# Altium footprint library QFN_Sq_65P_Side_M.PcbLib: 53 footprints (part 2 of 4)
Each footprint in its own frame and in the unit in brackets; x right, y up, seen from the top. Pads: shape width x height; smd on the part's side, far side on the other; paste and mask are expansions set on the pad; w line width, h text height; cw(c..) or ccw(c..) is an arc to the next point about the centre after c.
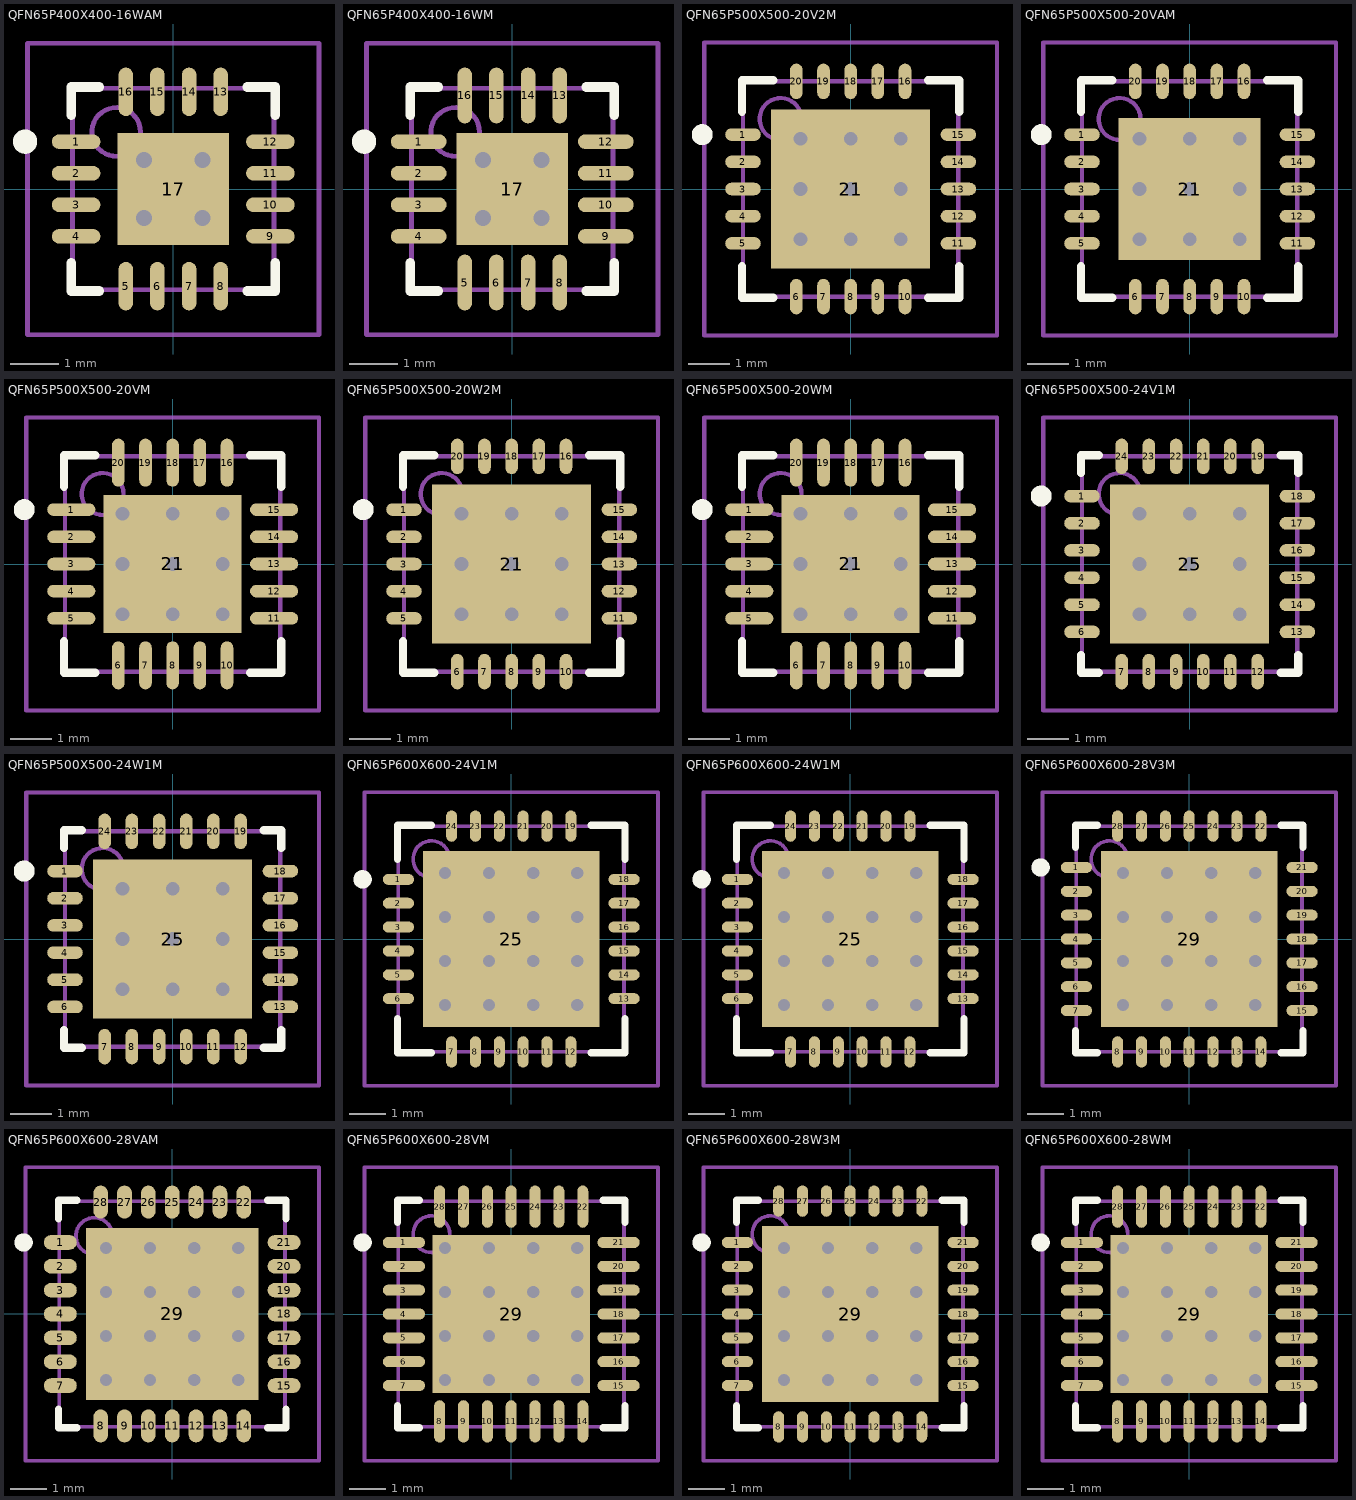
[diagram p1: the footprints below, top view; thin cyan lines are the x and y axes]

## QFN65P400X400-16WAM [mm] "16-Pin Plastic Quad Flat No-Lead 0.65 mm Pitch"
height 0.8
pads (17):
  oval 1x0.3 smd: 1(-2,0.975) 2(-2,0.325) 3(-2,-0.325) 4(-2,-0.975) 9(2,-0.975) 10(2,-0.325) 11(2,0.325) 12(2,0.975)
  oval 0.3x1 smd: 5(-0.975,-2) 6(-0.325,-2) 7(0.325,-2) 8(0.975,-2) 13(0.975,2) 14(0.325,2) 15(-0.325,2) 16(-0.975,2)
  rect 2.3x2.3 smd: 17(0,0)
via -0.6,0.6 diameter 0.66 hole 0.33
via 0.6,0.6 diameter 0.66 hole 0.33
via -0.6,-0.6 diameter 0.66 hole 0.33
via 0.6,-0.6 diameter 0.66 hole 0.33
Top Overlay:
  circle w0.25: c-3.05,0.975 r0.125
  lines w0.2: -2.1,-1.525 -2.1,-2.1 -1.525,-2.1 ; -2.1,1.525 -2.1,2.1 -1.525,2.1 ; 1.525,-2.1 2.1,-2.1 2.1,-1.525 ; 1.525,2.1 2.1,2.1 2.1,1.525
Mechanical 13:
  circle w0.1: c-1.175,1.175 r0.5
  lines w0.1: -2.075,-2.075 -2.075,2.075 2.075,2.075 2.075,-2.075 -2.075,-2.075
Mechanical 15:
  lines w0.1: -0.5,0 0.5,0 ; 0,-0.5 0,0.5 ; -3,-3 -3,3 3,3 3,-3 -3,-3
3D body: height 1, standoff 0, extent -2.075,-2.075 2.075,2.075

## QFN65P400X400-16WM [mm] "QFN, 16-Leads, Body 4x4 mm, Pitch 0.65mm, IPC Low Density"
height 0.8
pads (17):
  oval 1.15x0.3 smd: 1(-1.925,0.975) 2(-1.925,0.325) 3(-1.925,-0.325) 4(-1.925,-0.975) 9(1.925,-0.975) 10(1.925,-0.325) 11(1.925,0.325) 12(1.925,0.975)
  oval 0.3x1.15 smd: 5(-0.975,-1.925) 6(-0.325,-1.925) 7(0.325,-1.925) 8(0.975,-1.925) 13(0.975,1.925) 14(0.325,1.925) 15(-0.325,1.925) 16(-0.975,1.925)
  rect 2.3x2.3 smd: 17(0,0)
via 0.6,-0.6 diameter 0.66 hole 0.33
via -0.6,-0.6 diameter 0.66 hole 0.33
via 0.6,0.6 diameter 0.66 hole 0.33
via -0.6,0.6 diameter 0.66 hole 0.33
Top Overlay:
  circle w0.25: c-3.05,0.975 r0.125
  lines w0.2: -2.1,-1.525 -2.1,-2.1 -1.525,-2.1 ; -2.1,1.525 -2.1,2.1 -1.525,2.1 ; 1.525,-2.1 2.1,-2.1 2.1,-1.525 ; 1.525,2.1 2.1,2.1 2.1,1.525
Mechanical 13:
  circle w0.1: c-1.175,1.175 r0.5
  lines w0.1: -2.075,-2.075 2.075,-2.075 2.075,2.075 -2.075,2.075 -2.075,-2.075
Mechanical 15:
  lines w0.1: -0.5,0 0.5,0 ; 0,-0.5 0,0.5 ; -3,-3 3,-3 3,3 -3,3 -3,-3
3D body: height 0.8, standoff 0, extent -2.075,-2.075 2.075,2.075

## QFN65P500X500-20V2M [mm] "QFN, 20-Leads, Body 5x5 mm, Pitch 0.65mm, IPC Low Density"
height 1
pads (21):
  oval 0.85x0.3 smd: 1(-2.575,1.3) 2(-2.575,0.65) 3(-2.575,0) 4(-2.575,-0.65) 5(-2.575,-1.3) 11(2.575,-1.3) 12(2.575,-0.65) 13(2.575,0) 14(2.575,0.65) 15(2.575,1.3)
  oval 0.3x0.85 smd: 6(-1.3,-2.575) 7(-0.65,-2.575) 8(0,-2.575) 9(0.65,-2.575) 10(1.3,-2.575) 16(1.3,2.575) 17(0.65,2.575) 18(0,2.575) 19(-0.65,2.575) 20(-1.3,2.575)
  rect 3.8x3.8 smd: 21(0,0)
via 1.2,-1.2 diameter 0.66 hole 0.33
via 0,-1.2 diameter 0.66 hole 0.33
via -1.2,-1.2 diameter 0.66 hole 0.33
via 1.2,0 diameter 0.66 hole 0.33
via 0,0 diameter 0.66 hole 0.33
via -1.2,0 diameter 0.66 hole 0.33
via 1.2,1.2 diameter 0.66 hole 0.33
via 0,1.2 diameter 0.66 hole 0.33
via -1.2,1.2 diameter 0.66 hole 0.33
Top Overlay:
  circle w0.25: c-3.55,1.3 r0.125
  lines w0.2: -2.6,-1.85 -2.6,-2.6 -1.85,-2.6 ; -2.6,1.85 -2.6,2.6 -1.85,2.6 ; 1.85,-2.6 2.6,-2.6 2.6,-1.85 ; 1.85,2.6 2.6,2.6 2.6,1.85
Mechanical 13:
  circle w0.1: c-1.675,1.675 r0.5
  lines w0.1: -2.575,-2.575 2.575,-2.575 2.575,2.575 -2.575,2.575 -2.575,-2.575
Mechanical 15:
  lines w0.1: -0.5,0 0.5,0 ; 0,-0.5 0,0.5 ; -3.5,-3.5 3.5,-3.5 3.5,3.5 -3.5,3.5 -3.5,-3.5
3D body: height 1, standoff 0, extent -2.575,-2.575 2.575,2.575

## QFN65P500X500-20VAM [mm] "QFN, 20-Leads, Body 5x5 mm, Pitch 0.65mm, IPC Low Density"
height 1
pads (21):
  oval 0.85x0.3 smd: 1(-2.575,1.3) 2(-2.575,0.65) 3(-2.575,0) 4(-2.575,-0.65) 5(-2.575,-1.3) 11(2.575,-1.3) 12(2.575,-0.65) 13(2.575,0) 14(2.575,0.65) 15(2.575,1.3)
  oval 0.3x0.85 smd: 6(-1.3,-2.575) 7(-0.65,-2.575) 8(0,-2.575) 9(0.65,-2.575) 10(1.3,-2.575) 16(1.3,2.575) 17(0.65,2.575) 18(0,2.575) 19(-0.65,2.575) 20(-1.3,2.575)
  rect 3.4x3.4 smd: 21(0,0)
via -1.2,1.2 diameter 0.66 hole 0.33
via 0,1.2 diameter 0.66 hole 0.33
via 1.2,1.2 diameter 0.66 hole 0.33
via -1.2,0 diameter 0.66 hole 0.33
via 0,0 diameter 0.66 hole 0.33
via 1.2,0 diameter 0.66 hole 0.33
via -1.2,-1.2 diameter 0.66 hole 0.33
via 0,-1.2 diameter 0.66 hole 0.33
via 1.2,-1.2 diameter 0.66 hole 0.33
Top Overlay:
  circle w0.25: c-3.55,1.3 r0.125
  lines w0.2: -2.6,-1.85 -2.6,-2.6 -1.85,-2.6 ; -2.6,1.85 -2.6,2.6 -1.85,2.6 ; 1.85,-2.6 2.6,-2.6 2.6,-1.85 ; 1.85,2.6 2.6,2.6 2.6,1.85
Mechanical 13:
  circle w0.1: c-1.675,1.675 r0.5
  lines w0.1: -2.575,-2.575 -2.575,2.575 2.575,2.575 2.575,-2.575 -2.575,-2.575
Mechanical 15:
  lines w0.1: -0.5,0 0.5,0 ; 0,-0.5 0,0.5 ; -3.5,-3.5 -3.5,3.5 3.5,3.5 3.5,-3.5 -3.5,-3.5
3D body: height 1, standoff 0, extent -2.575,-2.575 2.575,2.575

## QFN65P500X500-20VM [mm] "QFN, 20-Leads, Body 5x5 mm, Pitch 0.65mm, IPC Low Density"
height 1
pads (21):
  oval 1.15x0.3 smd: 1(-2.425,1.3) 2(-2.425,0.65) 3(-2.425,0) 4(-2.425,-0.65) 5(-2.425,-1.3) 11(2.425,-1.3) 12(2.425,-0.65) 13(2.425,0) 14(2.425,0.65) 15(2.425,1.3)
  oval 0.3x1.15 smd: 6(-1.3,-2.425) 7(-0.65,-2.425) 8(0,-2.425) 9(0.65,-2.425) 10(1.3,-2.425) 16(1.3,2.425) 17(0.65,2.425) 18(0,2.425) 19(-0.65,2.425) 20(-1.3,2.425)
  rect 3.3x3.3 smd: 21(0,0)
via -1.2,1.2 diameter 0.66 hole 0.33
via 0,1.2 diameter 0.66 hole 0.33
via 1.2,1.2 diameter 0.66 hole 0.33
via -1.2,0 diameter 0.66 hole 0.33
via 0,0 diameter 0.66 hole 0.33
via 1.2,0 diameter 0.66 hole 0.33
via -1.2,-1.2 diameter 0.66 hole 0.33
via 0,-1.2 diameter 0.66 hole 0.33
via 1.2,-1.2 diameter 0.66 hole 0.33
Top Overlay:
  circle w0.25: c-3.55,1.3 r0.125
  lines w0.2: -2.6,-1.85 -2.6,-2.6 -1.85,-2.6 ; -2.6,1.85 -2.6,2.6 -1.85,2.6 ; 1.85,-2.6 2.6,-2.6 2.6,-1.85 ; 1.85,2.6 2.6,2.6 2.6,1.85
Mechanical 13:
  circle w0.1: c-1.675,1.675 r0.5
  lines w0.1: -2.575,-2.575 -2.575,2.575 2.575,2.575 2.575,-2.575 -2.575,-2.575
Mechanical 15:
  lines w0.1: -0.5,0 0.5,0 ; 0,-0.5 0,0.5 ; -3.5,-3.5 -3.5,3.5 3.5,3.5 3.5,-3.5 -3.5,-3.5
3D body: height 1, standoff 0, extent -2.575,-2.575 2.575,2.575

## QFN65P500X500-20W2M [mm] "QFN, 20-Leads, Body 5x5 mm, Pitch 0.65mm, IPC Low Density"
height 0.8
pads (21):
  oval 0.85x0.3 smd: 1(-2.575,1.3) 2(-2.575,0.65) 3(-2.575,0) 4(-2.575,-0.65) 5(-2.575,-1.3) 11(2.575,-1.3) 12(2.575,-0.65) 13(2.575,0) 14(2.575,0.65) 15(2.575,1.3)
  oval 0.3x0.85 smd: 6(-1.3,-2.575) 7(-0.65,-2.575) 8(0,-2.575) 9(0.65,-2.575) 10(1.3,-2.575) 16(1.3,2.575) 17(0.65,2.575) 18(0,2.575) 19(-0.65,2.575) 20(-1.3,2.575)
  rect 3.8x3.8 smd: 21(0,0)
via 1.2,-1.2 diameter 0.66 hole 0.33
via 0,-1.2 diameter 0.66 hole 0.33
via -1.2,-1.2 diameter 0.66 hole 0.33
via 1.2,0 diameter 0.66 hole 0.33
via 0,0 diameter 0.66 hole 0.33
via -1.2,0 diameter 0.66 hole 0.33
via 1.2,1.2 diameter 0.66 hole 0.33
via 0,1.2 diameter 0.66 hole 0.33
via -1.2,1.2 diameter 0.66 hole 0.33
Top Overlay:
  circle w0.25: c-3.55,1.3 r0.125
  lines w0.2: -2.6,-1.85 -2.6,-2.6 -1.85,-2.6 ; -2.6,1.85 -2.6,2.6 -1.85,2.6 ; 1.85,-2.6 2.6,-2.6 2.6,-1.85 ; 1.85,2.6 2.6,2.6 2.6,1.85
Mechanical 13:
  circle w0.1: c-1.675,1.675 r0.5
  lines w0.1: -2.575,-2.575 2.575,-2.575 2.575,2.575 -2.575,2.575 -2.575,-2.575
Mechanical 15:
  lines w0.1: -0.5,0 0.5,0 ; 0,-0.5 0,0.5 ; -3.5,-3.5 3.5,-3.5 3.5,3.5 -3.5,3.5 -3.5,-3.5
3D body: height 0.8, standoff 0, extent -2.575,-2.575 2.575,2.575

## QFN65P500X500-20WM [mm] "QFN, 20-Leads, Body 5x5 mm, Pitch 0.65mm, IPC Low Density"
height 0.8
pads (21):
  oval 1.15x0.3 smd: 1(-2.425,1.3) 2(-2.425,0.65) 3(-2.425,0) 4(-2.425,-0.65) 5(-2.425,-1.3) 11(2.425,-1.3) 12(2.425,-0.65) 13(2.425,0) 14(2.425,0.65) 15(2.425,1.3)
  oval 0.3x1.15 smd: 6(-1.3,-2.425) 7(-0.65,-2.425) 8(0,-2.425) 9(0.65,-2.425) 10(1.3,-2.425) 16(1.3,2.425) 17(0.65,2.425) 18(0,2.425) 19(-0.65,2.425) 20(-1.3,2.425)
  rect 3.3x3.3 smd: 21(0,0)
via 1.2,-1.2 diameter 0.66 hole 0.33
via 0,-1.2 diameter 0.66 hole 0.33
via -1.2,-1.2 diameter 0.66 hole 0.33
via 1.2,0 diameter 0.66 hole 0.33
via 0,0 diameter 0.66 hole 0.33
via -1.2,0 diameter 0.66 hole 0.33
via 1.2,1.2 diameter 0.66 hole 0.33
via 0,1.2 diameter 0.66 hole 0.33
via -1.2,1.2 diameter 0.66 hole 0.33
Top Overlay:
  circle w0.25: c-3.55,1.3 r0.125
  lines w0.2: -2.6,-1.85 -2.6,-2.6 -1.85,-2.6 ; -2.6,1.85 -2.6,2.6 -1.85,2.6 ; 1.85,-2.6 2.6,-2.6 2.6,-1.85 ; 1.85,2.6 2.6,2.6 2.6,1.85
Mechanical 13:
  circle w0.1: c-1.675,1.675 r0.5
  lines w0.1: -2.575,-2.575 2.575,-2.575 2.575,2.575 -2.575,2.575 -2.575,-2.575
Mechanical 15:
  lines w0.1: -0.5,0 0.5,0 ; 0,-0.5 0,0.5 ; -3.5,-3.5 3.5,-3.5 3.5,3.5 -3.5,3.5 -3.5,-3.5
3D body: height 0.8, standoff 0, extent -2.575,-2.575 2.575,2.575

## QFN65P500X500-24V1M [mm] "QFN, 24-Leads, Body 5x5 mm, Pitch 0.65mm, IPC Low Density"
height 1
pads (25):
  oval 0.85x0.3 smd: 1(-2.575,1.625) 2(-2.575,0.975) 3(-2.575,0.325) 4(-2.575,-0.325) 5(-2.575,-0.975) 6(-2.575,-1.625) 13(2.575,-1.625) 14(2.575,-0.975) 15(2.575,-0.325) 16(2.575,0.325) 17(2.575,0.975) 18(2.575,1.625)
  oval 0.3x0.85 smd: 7(-1.625,-2.575) 8(-0.975,-2.575) 9(-0.325,-2.575) 10(0.325,-2.575) 11(0.975,-2.575) 12(1.625,-2.575) 19(1.625,2.575) 20(0.975,2.575) 21(0.325,2.575) 22(-0.325,2.575) 23(-0.975,2.575) 24(-1.625,2.575)
  rect 3.8x3.8 smd: 25(0,0)
via 1.2,-1.2 diameter 0.66 hole 0.33
via 0,-1.2 diameter 0.66 hole 0.33
via -1.2,-1.2 diameter 0.66 hole 0.33
via 1.2,0 diameter 0.66 hole 0.33
via 0,0 diameter 0.66 hole 0.33
via -1.2,0 diameter 0.66 hole 0.33
via 1.2,1.2 diameter 0.66 hole 0.33
via 0,1.2 diameter 0.66 hole 0.33
via -1.2,1.2 diameter 0.66 hole 0.33
Top Overlay:
  circle w0.25: c-3.55,1.625 r0.125
  lines w0.2: -2.6,-2.175 -2.6,-2.6 -2.175,-2.6 ; -2.6,2.175 -2.6,2.6 -2.175,2.6 ; 2.175,-2.6 2.6,-2.6 2.6,-2.175 ; 2.175,2.6 2.6,2.6 2.6,2.175
Mechanical 13:
  circle w0.1: c-1.675,1.675 r0.5
  lines w0.1: -2.575,-2.575 2.575,-2.575 2.575,2.575 -2.575,2.575 -2.575,-2.575
Mechanical 15:
  lines w0.1: -0.5,0 0.5,0 ; 0,-0.5 0,0.5 ; -3.5,-3.5 3.5,-3.5 3.5,3.5 -3.5,3.5 -3.5,-3.5
3D body: height 1, standoff 0, extent -2.575,-2.575 2.575,2.575

## QFN65P500X500-24W1M [mm] "QFN, 24-Leads, Body 5x5 mm, Pitch 0.65mm, IPC Low Density"
height 0.8
pads (25):
  oval 0.85x0.3 smd: 1(-2.575,1.625) 2(-2.575,0.975) 3(-2.575,0.325) 4(-2.575,-0.325) 5(-2.575,-0.975) 6(-2.575,-1.625) 13(2.575,-1.625) 14(2.575,-0.975) 15(2.575,-0.325) 16(2.575,0.325) 17(2.575,0.975) 18(2.575,1.625)
  oval 0.3x0.85 smd: 7(-1.625,-2.575) 8(-0.975,-2.575) 9(-0.325,-2.575) 10(0.325,-2.575) 11(0.975,-2.575) 12(1.625,-2.575) 19(1.625,2.575) 20(0.975,2.575) 21(0.325,2.575) 22(-0.325,2.575) 23(-0.975,2.575) 24(-1.625,2.575)
  rect 3.8x3.8 smd: 25(0,0)
via 1.2,-1.2 diameter 0.66 hole 0.33
via 0,-1.2 diameter 0.66 hole 0.33
via -1.2,-1.2 diameter 0.66 hole 0.33
via 1.2,0 diameter 0.66 hole 0.33
via 0,0 diameter 0.66 hole 0.33
via -1.2,0 diameter 0.66 hole 0.33
via 1.2,1.2 diameter 0.66 hole 0.33
via 0,1.2 diameter 0.66 hole 0.33
via -1.2,1.2 diameter 0.66 hole 0.33
Top Overlay:
  circle w0.25: c-3.55,1.625 r0.125
  lines w0.2: -2.6,-2.175 -2.6,-2.6 -2.175,-2.6 ; -2.6,2.175 -2.6,2.6 -2.175,2.6 ; 2.175,-2.6 2.6,-2.6 2.6,-2.175 ; 2.175,2.6 2.6,2.6 2.6,2.175
Mechanical 13:
  circle w0.1: c-1.675,1.675 r0.5
  lines w0.1: -2.575,-2.575 2.575,-2.575 2.575,2.575 -2.575,2.575 -2.575,-2.575
Mechanical 15:
  lines w0.1: -0.5,0 0.5,0 ; 0,-0.5 0,0.5 ; -3.5,-3.5 3.5,-3.5 3.5,3.5 -3.5,3.5 -3.5,-3.5
3D body: height 0.8, standoff 0, extent -2.575,-2.575 2.575,2.575

## QFN65P600X600-24V1M [mm] "QFN, 24-Leads, Body 6x6 mm, Pitch 0.65mm, IPC Low Density"
height 1
pads (25):
  oval 0.85x0.3 smd: 1(-3.075,1.625) 2(-3.075,0.975) 3(-3.075,0.325) 4(-3.075,-0.325) 5(-3.075,-0.975) 6(-3.075,-1.625) 13(3.075,-1.625) 14(3.075,-0.975) 15(3.075,-0.325) 16(3.075,0.325) 17(3.075,0.975) 18(3.075,1.625)
  oval 0.3x0.85 smd: 7(-1.625,-3.075) 8(-0.975,-3.075) 9(-0.325,-3.075) 10(0.325,-3.075) 11(0.975,-3.075) 12(1.625,-3.075) 19(1.625,3.075) 20(0.975,3.075) 21(0.325,3.075) 22(-0.325,3.075) 23(-0.975,3.075) 24(-1.625,3.075)
  rect 4.8x4.8 smd: 25(0,0)
via 1.8,-1.8 diameter 0.66 hole 0.33
via 0.6,-1.8 diameter 0.66 hole 0.33
via -0.6,-1.8 diameter 0.66 hole 0.33
via -1.8,-1.8 diameter 0.66 hole 0.33
via 1.8,-0.6 diameter 0.66 hole 0.33
via 0.6,-0.6 diameter 0.66 hole 0.33
via -0.6,-0.6 diameter 0.66 hole 0.33
via -1.8,-0.6 diameter 0.66 hole 0.33
via 1.8,0.6 diameter 0.66 hole 0.33
via 0.6,0.6 diameter 0.66 hole 0.33
via -0.6,0.6 diameter 0.66 hole 0.33
via -1.8,0.6 diameter 0.66 hole 0.33
via 1.8,1.8 diameter 0.66 hole 0.33
via 0.6,1.8 diameter 0.66 hole 0.33
via -0.6,1.8 diameter 0.66 hole 0.33
via -1.8,1.8 diameter 0.66 hole 0.33
Top Overlay:
  circle w0.25: c-4.05,1.625 r0.125
  lines w0.2: -3.1,-2.175 -3.1,-3.1 -2.175,-3.1 ; -3.1,2.175 -3.1,3.1 -2.175,3.1 ; 2.175,-3.1 3.1,-3.1 3.1,-2.175 ; 2.175,3.1 3.1,3.1 3.1,2.175
Mechanical 13:
  circle w0.1: c-2.175,2.175 r0.5
  lines w0.1: -3.075,-3.075 3.075,-3.075 3.075,3.075 -3.075,3.075 -3.075,-3.075
Mechanical 15:
  lines w0.1: -0.5,0 0.5,0 ; 0,-0.5 0,0.5 ; -4,-4 4,-4 4,4 -4,4 -4,-4
3D body: height 1, standoff 0, extent -3.075,-3.075 3.075,3.075

## QFN65P600X600-24W1M [mm] "QFN, 24-Leads, Body 6x6 mm, Pitch 0.65mm, IPC Low Density"
height 0.8
pads (25):
  oval 0.85x0.3 smd: 1(-3.075,1.625) 2(-3.075,0.975) 3(-3.075,0.325) 4(-3.075,-0.325) 5(-3.075,-0.975) 6(-3.075,-1.625) 13(3.075,-1.625) 14(3.075,-0.975) 15(3.075,-0.325) 16(3.075,0.325) 17(3.075,0.975) 18(3.075,1.625)
  oval 0.3x0.85 smd: 7(-1.625,-3.075) 8(-0.975,-3.075) 9(-0.325,-3.075) 10(0.325,-3.075) 11(0.975,-3.075) 12(1.625,-3.075) 19(1.625,3.075) 20(0.975,3.075) 21(0.325,3.075) 22(-0.325,3.075) 23(-0.975,3.075) 24(-1.625,3.075)
  rect 4.8x4.8 smd: 25(0,0)
via 1.8,-1.8 diameter 0.66 hole 0.33
via 0.6,-1.8 diameter 0.66 hole 0.33
via -0.6,-1.8 diameter 0.66 hole 0.33
via -1.8,-1.8 diameter 0.66 hole 0.33
via 1.8,-0.6 diameter 0.66 hole 0.33
via 0.6,-0.6 diameter 0.66 hole 0.33
via -0.6,-0.6 diameter 0.66 hole 0.33
via -1.8,-0.6 diameter 0.66 hole 0.33
via 1.8,0.6 diameter 0.66 hole 0.33
via 0.6,0.6 diameter 0.66 hole 0.33
via -0.6,0.6 diameter 0.66 hole 0.33
via -1.8,0.6 diameter 0.66 hole 0.33
via 1.8,1.8 diameter 0.66 hole 0.33
via 0.6,1.8 diameter 0.66 hole 0.33
via -0.6,1.8 diameter 0.66 hole 0.33
via -1.8,1.8 diameter 0.66 hole 0.33
Top Overlay:
  circle w0.25: c-4.05,1.625 r0.125
  lines w0.2: -3.1,-2.175 -3.1,-3.1 -2.175,-3.1 ; -3.1,2.175 -3.1,3.1 -2.175,3.1 ; 2.175,-3.1 3.1,-3.1 3.1,-2.175 ; 2.175,3.1 3.1,3.1 3.1,2.175
Mechanical 13:
  circle w0.1: c-2.175,2.175 r0.5
  lines w0.1: -3.075,-3.075 3.075,-3.075 3.075,3.075 -3.075,3.075 -3.075,-3.075
Mechanical 15:
  lines w0.1: -0.5,0 0.5,0 ; 0,-0.5 0,0.5 ; -4,-4 4,-4 4,4 -4,4 -4,-4
3D body: height 0.8, standoff 0, extent -3.075,-3.075 3.075,3.075

## QFN65P600X600-28V3M [mm] "QFN, 28-Leads, Body 6x6 mm, Pitch 0.65mm, IPC Low Density"
height 1
pads (29):
  oval 0.85x0.3 smd: 1(-3.075,1.95) 2(-3.075,1.3) 3(-3.075,0.65) 4(-3.075,0) 5(-3.075,-0.65) 6(-3.075,-1.3) 7(-3.075,-1.95) 15(3.075,-1.95) 16(3.075,-1.3) 17(3.075,-0.65) 18(3.075,0) 19(3.075,0.65) 20(3.075,1.3) 21(3.075,1.95)
  oval 0.3x0.85 smd: 8(-1.95,-3.075) 9(-1.3,-3.075) 10(-0.65,-3.075) 11(0,-3.075) 12(0.65,-3.075) 13(1.3,-3.075) 14(1.95,-3.075) 22(1.95,3.075) 23(1.3,3.075) 24(0.65,3.075) 25(0,3.075) 26(-0.65,3.075) 27(-1.3,3.075) 28(-1.95,3.075)
  rect 4.8x4.8 smd: 29(0,0)
via 1.8,-1.8 diameter 0.66 hole 0.33
via 0.6,-1.8 diameter 0.66 hole 0.33
via -0.6,-1.8 diameter 0.66 hole 0.33
via -1.8,-1.8 diameter 0.66 hole 0.33
via 1.8,-0.6 diameter 0.66 hole 0.33
via 0.6,-0.6 diameter 0.66 hole 0.33
via -0.6,-0.6 diameter 0.66 hole 0.33
via -1.8,-0.6 diameter 0.66 hole 0.33
via 1.8,0.6 diameter 0.66 hole 0.33
via 0.6,0.6 diameter 0.66 hole 0.33
via -0.6,0.6 diameter 0.66 hole 0.33
via -1.8,0.6 diameter 0.66 hole 0.33
via 1.8,1.8 diameter 0.66 hole 0.33
via 0.6,1.8 diameter 0.66 hole 0.33
via -0.6,1.8 diameter 0.66 hole 0.33
via -1.8,1.8 diameter 0.66 hole 0.33
Top Overlay:
  circle w0.25: c-4.05,1.95 r0.125
  lines w0.2: -3.1,-2.5 -3.1,-3.1 -2.5,-3.1 ; -3.1,2.5 -3.1,3.1 -2.5,3.1 ; 2.5,-3.1 3.1,-3.1 3.1,-2.5 ; 2.5,3.1 3.1,3.1 3.1,2.5
Mechanical 13:
  circle w0.1: c-2.175,2.175 r0.5
  lines w0.1: -3.075,-3.075 3.075,-3.075 3.075,3.075 -3.075,3.075 -3.075,-3.075
Mechanical 15:
  lines w0.1: -0.5,0 0.5,0 ; 0,-0.5 0,0.5 ; -4,-4 4,-4 4,4 -4,4 -4,-4
3D body: height 1, standoff 0, extent -3.075,-3.075 3.075,3.075

## QFN65P600X600-28VAM [mm] "QFN, 28-Leads, Body 6x6 mm, Pitch 0.65mm, IPC Low Density"
height 1
pads (29):
  oval 0.9x0.4 smd: 1(-3.05,1.95) 2(-3.05,1.3) 3(-3.05,0.65) 4(-3.05,0) 5(-3.05,-0.65) 6(-3.05,-1.3) 7(-3.05,-1.95) 15(3.05,-1.95) 16(3.05,-1.3) 17(3.05,-0.65) 18(3.05,0) 19(3.05,0.65) 20(3.05,1.3) 21(3.05,1.95)
  oval 0.4x0.9 smd: 8(-1.95,-3.05) 9(-1.3,-3.05) 10(-0.65,-3.05) 11(0,-3.05) 12(0.65,-3.05) 13(1.3,-3.05) 14(1.95,-3.05) 22(1.95,3.05) 23(1.3,3.05) 24(0.65,3.05) 25(0,3.05) 26(-0.65,3.05) 27(-1.3,3.05) 28(-1.95,3.05)
  rect 4.7x4.7 smd: 29(0,0)
via 1.8,-1.8 diameter 0.66 hole 0.33
via 0.6,-1.8 diameter 0.66 hole 0.33
via -0.6,-1.8 diameter 0.66 hole 0.33
via -1.8,-1.8 diameter 0.66 hole 0.33
via 1.8,-0.6 diameter 0.66 hole 0.33
via 0.6,-0.6 diameter 0.66 hole 0.33
via -0.6,-0.6 diameter 0.66 hole 0.33
via -1.8,-0.6 diameter 0.66 hole 0.33
via 1.8,0.6 diameter 0.66 hole 0.33
via 0.6,0.6 diameter 0.66 hole 0.33
via -0.6,0.6 diameter 0.66 hole 0.33
via -1.8,0.6 diameter 0.66 hole 0.33
via 1.8,1.8 diameter 0.66 hole 0.33
via 0.6,1.8 diameter 0.66 hole 0.33
via -0.6,1.8 diameter 0.66 hole 0.33
via -1.8,1.8 diameter 0.66 hole 0.33
Top Overlay:
  circle w0.25: c-4.05,1.95 r0.125
  lines w0.2: -3.1,-2.6 -3.1,-3.1 -2.6,-3.1 ; -3.1,2.6 -3.1,3.1 -2.6,3.1 ; 2.6,-3.1 3.1,-3.1 3.1,-2.6 ; 2.6,3.1 3.1,3.1 3.1,2.6
Mechanical 13:
  circle w0.1: c-2.125,2.125 r0.5
  lines w0.1: -3.075,-3.075 3.075,-3.075 3.075,3.075 -3.075,3.075 -3.075,-3.075
Mechanical 15:
  lines w0.1: -0.5,0 0.5,0 ; 0,-0.5 0,0.5 ; -4,-4 4,-4 4,4 -4,4 -4,-4
3D body: height 1, standoff 0, extent -3.075,-3.075 3.075,3.075

## QFN65P600X600-28VM [mm] "QFN, 28-Leads, Body 6x6 mm, Pitch 0.65mm, IPC Low Density"
height 1
pads (29):
  oval 1.15x0.3 smd: 1(-2.925,1.95) 2(-2.925,1.3) 3(-2.925,0.65) 4(-2.925,0) 5(-2.925,-0.65) 6(-2.925,-1.3) 7(-2.925,-1.95) 15(2.925,-1.95) 16(2.925,-1.3) 17(2.925,-0.65) 18(2.925,0) 19(2.925,0.65) 20(2.925,1.3) 21(2.925,1.95)
  oval 0.3x1.15 smd: 8(-1.95,-2.925) 9(-1.3,-2.925) 10(-0.65,-2.925) 11(0,-2.925) 12(0.65,-2.925) 13(1.3,-2.925) 14(1.95,-2.925) 22(1.95,2.925) 23(1.3,2.925) 24(0.65,2.925) 25(0,2.925) 26(-0.65,2.925) 27(-1.3,2.925) 28(-1.95,2.925)
  rect 4.3x4.3 smd: 29(0,0)
via 1.8,-1.8 diameter 0.66 hole 0.33
via 0.6,-1.8 diameter 0.66 hole 0.33
via -0.6,-1.8 diameter 0.66 hole 0.33
via -1.8,-1.8 diameter 0.66 hole 0.33
via 1.8,-0.6 diameter 0.66 hole 0.33
via 0.6,-0.6 diameter 0.66 hole 0.33
via -0.6,-0.6 diameter 0.66 hole 0.33
via -1.8,-0.6 diameter 0.66 hole 0.33
via 1.8,0.6 diameter 0.66 hole 0.33
via 0.6,0.6 diameter 0.66 hole 0.33
via -0.6,0.6 diameter 0.66 hole 0.33
via -1.8,0.6 diameter 0.66 hole 0.33
via 1.8,1.8 diameter 0.66 hole 0.33
via 0.6,1.8 diameter 0.66 hole 0.33
via -0.6,1.8 diameter 0.66 hole 0.33
via -1.8,1.8 diameter 0.66 hole 0.33
Top Overlay:
  circle w0.25: c-4.05,1.95 r0.125
  lines w0.2: -3.1,-2.5 -3.1,-3.1 -2.5,-3.1 ; -3.1,2.5 -3.1,3.1 -2.5,3.1 ; 2.5,-3.1 3.1,-3.1 3.1,-2.5 ; 2.5,3.1 3.1,3.1 3.1,2.5
Mechanical 13:
  circle w0.1: c-2.175,2.175 r0.5
  lines w0.1: -3.075,-3.075 3.075,-3.075 3.075,3.075 -3.075,3.075 -3.075,-3.075
Mechanical 15:
  lines w0.1: -0.5,0 0.5,0 ; 0,-0.5 0,0.5 ; -4,-4 4,-4 4,4 -4,4 -4,-4
3D body: height 1, standoff 0, extent -3.075,-3.075 3.075,3.075

## QFN65P600X600-28W3M [mm] "QFN, 28-Leads, Body 6x6 mm, Pitch 0.65mm, IPC Low Density"
height 0.8
pads (29):
  oval 0.85x0.3 smd: 1(-3.075,1.95) 2(-3.075,1.3) 3(-3.075,0.65) 4(-3.075,0) 5(-3.075,-0.65) 6(-3.075,-1.3) 7(-3.075,-1.95) 15(3.075,-1.95) 16(3.075,-1.3) 17(3.075,-0.65) 18(3.075,0) 19(3.075,0.65) 20(3.075,1.3) 21(3.075,1.95)
  oval 0.3x0.85 smd: 8(-1.95,-3.075) 9(-1.3,-3.075) 10(-0.65,-3.075) 11(0,-3.075) 12(0.65,-3.075) 13(1.3,-3.075) 14(1.95,-3.075) 22(1.95,3.075) 23(1.3,3.075) 24(0.65,3.075) 25(0,3.075) 26(-0.65,3.075) 27(-1.3,3.075) 28(-1.95,3.075)
  rect 4.8x4.8 smd: 29(0,0)
via 1.8,-1.8 diameter 0.66 hole 0.33
via 0.6,-1.8 diameter 0.66 hole 0.33
via -0.6,-1.8 diameter 0.66 hole 0.33
via -1.8,-1.8 diameter 0.66 hole 0.33
via 1.8,-0.6 diameter 0.66 hole 0.33
via 0.6,-0.6 diameter 0.66 hole 0.33
via -0.6,-0.6 diameter 0.66 hole 0.33
via -1.8,-0.6 diameter 0.66 hole 0.33
via 1.8,0.6 diameter 0.66 hole 0.33
via 0.6,0.6 diameter 0.66 hole 0.33
via -0.6,0.6 diameter 0.66 hole 0.33
via -1.8,0.6 diameter 0.66 hole 0.33
via 1.8,1.8 diameter 0.66 hole 0.33
via 0.6,1.8 diameter 0.66 hole 0.33
via -0.6,1.8 diameter 0.66 hole 0.33
via -1.8,1.8 diameter 0.66 hole 0.33
Top Overlay:
  circle w0.25: c-4.05,1.95 r0.125
  lines w0.2: -3.1,-2.5 -3.1,-3.1 -2.5,-3.1 ; -3.1,2.5 -3.1,3.1 -2.5,3.1 ; 2.5,-3.1 3.1,-3.1 3.1,-2.5 ; 2.5,3.1 3.1,3.1 3.1,2.5
Mechanical 13:
  circle w0.1: c-2.175,2.175 r0.5
  lines w0.1: -3.075,-3.075 3.075,-3.075 3.075,3.075 -3.075,3.075 -3.075,-3.075
Mechanical 15:
  lines w0.1: -0.5,0 0.5,0 ; 0,-0.5 0,0.5 ; -4,-4 4,-4 4,4 -4,4 -4,-4
3D body: height 0.8, standoff 0, extent -3.075,-3.075 3.075,3.075

## QFN65P600X600-28WM [mm] "QFN, 28-Leads, Body 6x6 mm, Pitch 0.65mm, IPC Low Density"
height 0.8
pads (29):
  oval 1.15x0.3 smd: 1(-2.925,1.95) 2(-2.925,1.3) 3(-2.925,0.65) 4(-2.925,0) 5(-2.925,-0.65) 6(-2.925,-1.3) 7(-2.925,-1.95) 15(2.925,-1.95) 16(2.925,-1.3) 17(2.925,-0.65) 18(2.925,0) 19(2.925,0.65) 20(2.925,1.3) 21(2.925,1.95)
  oval 0.3x1.15 smd: 8(-1.95,-2.925) 9(-1.3,-2.925) 10(-0.65,-2.925) 11(0,-2.925) 12(0.65,-2.925) 13(1.3,-2.925) 14(1.95,-2.925) 22(1.95,2.925) 23(1.3,2.925) 24(0.65,2.925) 25(0,2.925) 26(-0.65,2.925) 27(-1.3,2.925) 28(-1.95,2.925)
  rect 4.3x4.3 smd: 29(0,0)
via 1.8,-1.8 diameter 0.66 hole 0.33
via 0.6,-1.8 diameter 0.66 hole 0.33
via -0.6,-1.8 diameter 0.66 hole 0.33
via -1.8,-1.8 diameter 0.66 hole 0.33
via 1.8,-0.6 diameter 0.66 hole 0.33
via 0.6,-0.6 diameter 0.66 hole 0.33
via -0.6,-0.6 diameter 0.66 hole 0.33
via -1.8,-0.6 diameter 0.66 hole 0.33
via 1.8,0.6 diameter 0.66 hole 0.33
via 0.6,0.6 diameter 0.66 hole 0.33
via -0.6,0.6 diameter 0.66 hole 0.33
via -1.8,0.6 diameter 0.66 hole 0.33
via 1.8,1.8 diameter 0.66 hole 0.33
via 0.6,1.8 diameter 0.66 hole 0.33
via -0.6,1.8 diameter 0.66 hole 0.33
via -1.8,1.8 diameter 0.66 hole 0.33
Top Overlay:
  circle w0.25: c-4.05,1.95 r0.125
  lines w0.2: -3.1,-2.5 -3.1,-3.1 -2.5,-3.1 ; -3.1,2.5 -3.1,3.1 -2.5,3.1 ; 2.5,-3.1 3.1,-3.1 3.1,-2.5 ; 2.5,3.1 3.1,3.1 3.1,2.5
Mechanical 13:
  circle w0.1: c-2.175,2.175 r0.5
  lines w0.1: -3.075,-3.075 3.075,-3.075 3.075,3.075 -3.075,3.075 -3.075,-3.075
Mechanical 15:
  lines w0.1: -0.5,0 0.5,0 ; 0,-0.5 0,0.5 ; -4,-4 4,-4 4,4 -4,4 -4,-4
3D body: height 0.8, standoff 0, extent -3.075,-3.075 3.075,3.075